# Altium schematic symbol library AO4407A.SchLib: 1 symbol
Pins are listed as number, name and electrical type; pins without a type are passive.

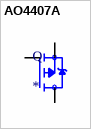
[diagram p0: symbol AO4407A]

## AO4407A
designator Q
P-Channel 30V 12A _Ta_ 3.1W _Ta_ Surface Mount 8-SOIC; MP: AO4407A; MF: Alpha &; Value: *; SnapEDA_Link: https://www.snapeda.com/parts/AO4407A/Alpha%20%26%20Omega%20Semiconductor%20Inc./view-part/492696/?ref=snap; Availability: Unavailable; Price: None; Package: SOIC-8 Alpha &amp; Omega Semiconductor
footprint AO4407A
pins: 1 S, 2 S, 3 S, 4 G, 5 D, 6 D, 7 D, 8 D